# Altium schematic symbol library FDV305N.SCHLIB: 1 symbol
Pins are listed as number, name and electrical type; pins without a type are passive.

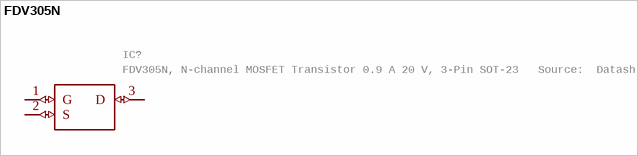
[diagram p0: symbol FDV305N]

## FDV305N
designator IC?, comment FDV305N, N-channel MOSFET Transistor 0.9 A 20 V, 3-Pin SOT-23   Source:  Datasheet
Manufacturer_Name: ON Semiconductor; GateName_1: G$1; SymbolName_1: FDV305N; LibraryName: FDV305N; DeviceSetName: FDV305N; Package: SOT95P240X120-3N; Manufacturer_Part_Number: FDV305N; Mouser_Part_Number: 512-FDV305N; Mouser_Price-Stock: https://www.mouser.co.uk/ProductDetail/ON-Semiconductor-Fairchild/FDV305N?qs=mdiO5HdF0KjwjAZb7xdQ1g%3D%3D; Arrow_Part_Number: FDV305N; Arrow_Price-Stock: https://www.arrow.com/en/products/fdv305n/on-semiconductor; Description: FDV305N, N-channel MOSFET Transistor 0.9 A 20 V, 3-Pin SOT-23; Height: 1.2mm
footprint SOT95P240X120-3N
pins: 1 G (io), 2 S (io), 3 D (io)